# Altium schematic symbol library 78M05.SchLib: 1 symbol
Pins are listed as number, name and electrical type; pins without a type are passive.

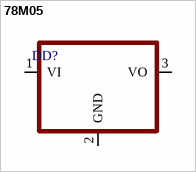
[diagram p0: symbol 78M05]

## 78M05
designator DD?
footprint DPAK
pins: 1 VI, 2 GND, 3 VO